# Altium footprint library 主板.PcbLib: 27 footprints (part 1 of 2)
Each footprint in its own frame and in the unit in brackets; x right, y up, seen from the top. Pads: shape width x height; smd on the part's side, far side on the other; paste and mask are expansions set on the pad; w line width, h text height; cw(c..) or ccw(c..) is an arc to the next point about the centre after c.
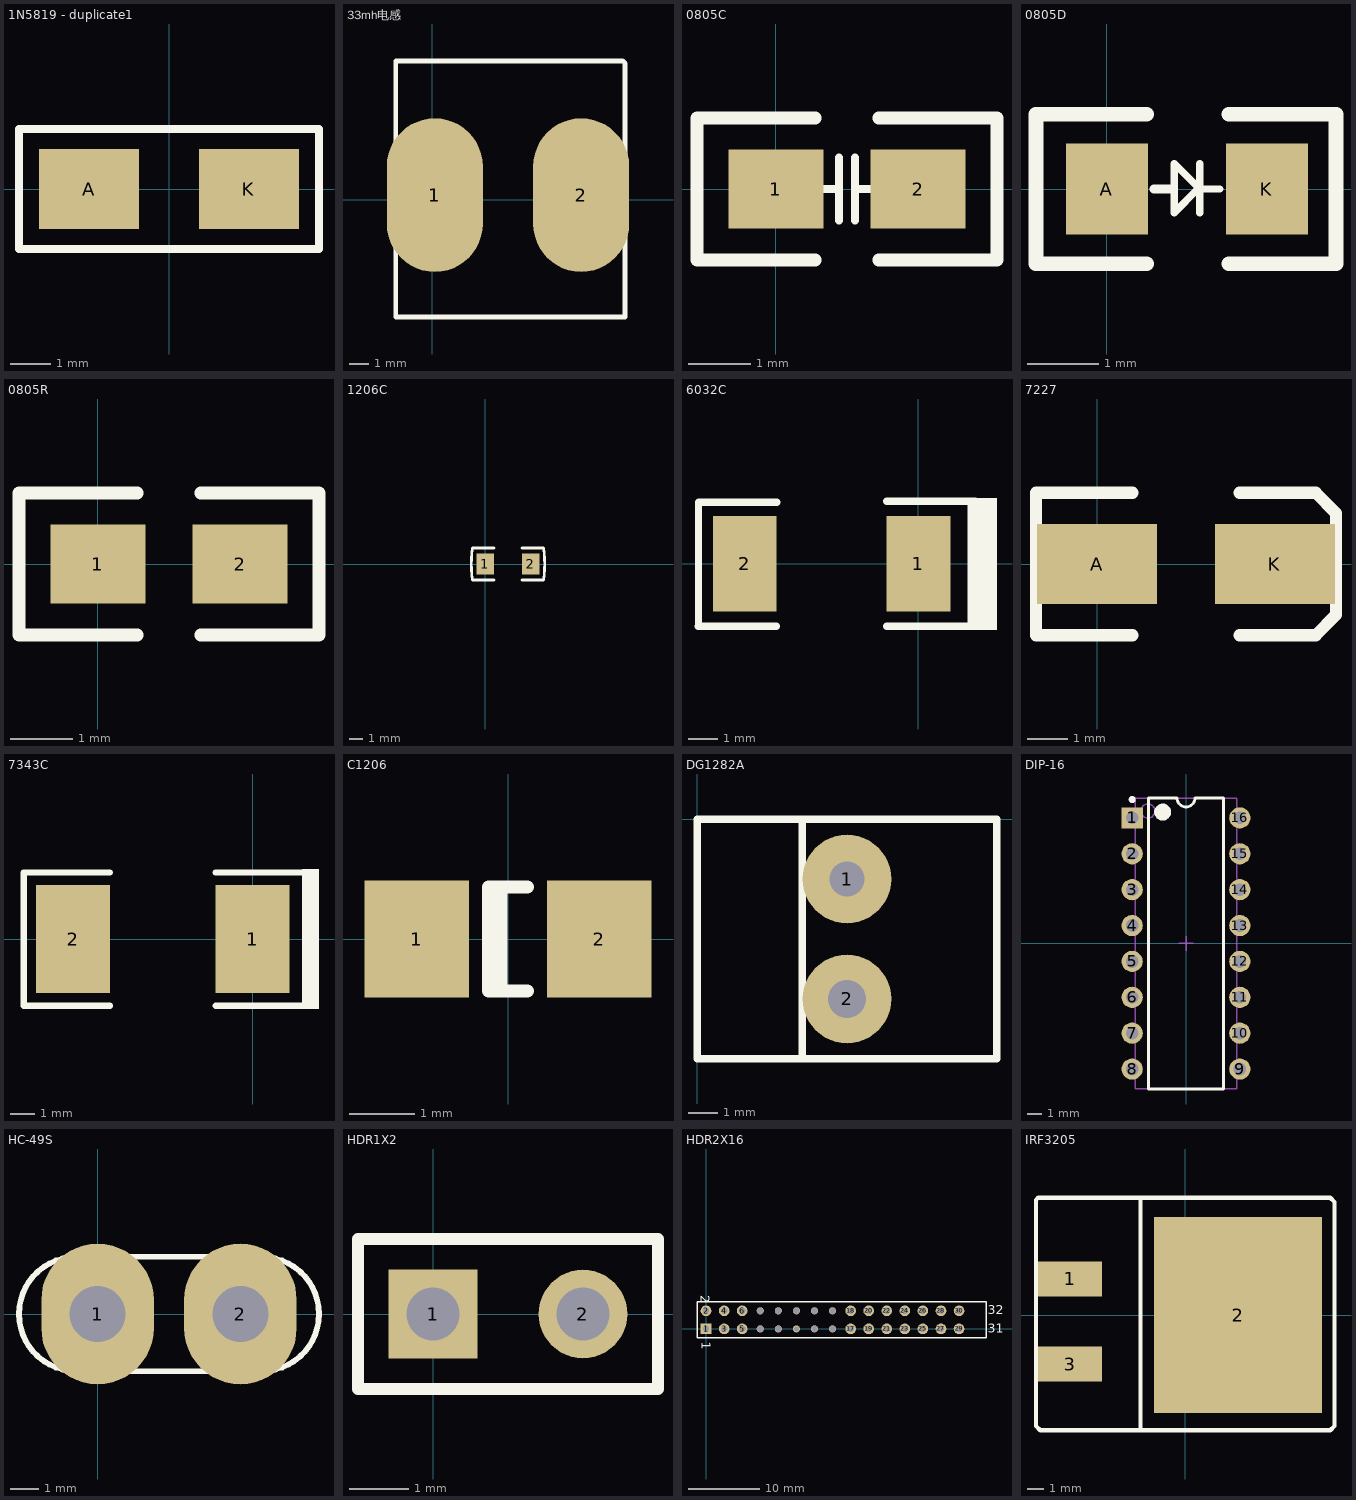
[diagram p0: the footprints below, top view; thin cyan lines are the x and y axes]

## 1N5819 - duplicate1 [mm]
pads (2):
  rect 2.5x2 smd: A(-2,0) K(2,0)
Top Overlay:
  lines w0.2: -3.75,-1.5 3.75,-1.5 3.75,1.5 -3.75,1.5 -3.75,0 -3.75,-1.5

## 33mh电感 [mil]
pads (2):
  oval 196.85x314.96 smd: 1(5,10) 2(305,10)
Top Overlay:
  lines w10: -75,-240 180,-240 395,-240 395,280 390,285 -75,285 -75,275 -75,-240

## 0805C [mil]
pads (2):
  rect 60x50 smd: 1(0,0) 2(90,0)
Top Overlay:
  lines w5: 30,0 40,0 ; 40,-20 40,20 ; 50,-20 50,20 ; 50,0 60,0
  lines w8: 25,-45 -50,-45 -50,45 25,45 ; 65,-45 140,-45 140,45 65,45

## 0805D [mil]
pads (2):
  rect 45x50 smd: A(0,0) K(88,0)
Top Overlay:
  lines w4: 51,-13 51,14 ; 62,0 51,0 ; 51,0 37,14 37,-13 50,0 51,0
  lines w5: 26,0 36,0
  lines w8: 22,-41 -39,-41 -39,41 22,41 ; 67,-41 126,-41 126,41 67,41

## 0805R [mil]
pads (2):
  rect 60x50 smd: 1(0,0) 2(90,0)
Top Overlay:
  lines w8: 25,-45 -50,-45 -50,45 25,45 ; 65,-45 140,-45 140,45 65,45

## 1206C [mil]
pads (2):
  rect 50x60 smd: 1(0,0) 2(130,0)
Top Overlay:
  lines w8: 25,-46 -36,-46 cw(c226.51,0) -36,46 25,46 ; 105,-46 166,-46 ccw(c-96.51,0) 166,46 105,46

## 6032C [mm]
pads (2):
  rect 2.2x3.3 smd: 1(0,0) 2(-6,0)
Top Overlay:
  rectangle: 1.699,-2.29 2.715,2.28
  lines w0.254: -7.605,-2.159 -4.905,-2.159 ; -7.6,-2.133 -7.6,2.133 -4.9,2.133 ; -1.095,-2.159 1.831,-2.159 ; -1.095,2.159 1.958,2.159

## 7227 [mm]
pads (2):
  rect 3x2 smd: A(0,0) K(4.445,0)
Top Overlay:
  lines w0.305: 0.889,-1.778 -1.524,-1.778 -1.524,1.778 0.889,1.778 ; 3.556,-1.778 5.461,-1.778 5.969,-1.27 5.969,1.27 5.461,1.778 3.556,1.778

## 7343C [mm]
pads (2):
  rect 3x4.4 smd: 1(0,0) 2(-7.3,0)
Top Overlay:
  rectangle: 2.008,-2.835 2.7,2.845
  lines w0.254: -5.8,-2.708 -9.308,-2.708 -9.308,2.708 -5.8,2.708 ; -1.5,-2.708 2.008,-2.708 ; -1.5,2.708 2.008,2.708

## C1206 [mm]
pads (2):
  rect 1.6x1.8 smd: 1(-1.4,0) 2(1.4,0)
Top Overlay:
  lines w0.2: -0.11,-0.8 -0.11,0.8 ; 0.3,-0.8 -0.3,-0.8 -0.3,0.8 0.3,0.8

## DG1282A [mm]
pads (2):
  round 3 hole 1.2: 1(5.08,-2.032)
  round 3 hole 1.3: 2(5.08,-6.096)
Top Overlay:
  lines w0.254: 3.556,-8.128 3.556,0 ; 0,-8.128 0,-0.508 0,0 6.096,0 6.604,0 7.112,0 9.144,0 10.16,0 10.16,-8.128 9.144,-8.128 7.112,-8.128 6.604,-8.128 6.096,-8.128 0,-8.128

## DIP-16 [mm] "DIP; 16 Leads; Row Spacing 7.62 mm; Pitch 2.54 m"
height 5.08
pads (16):
  rect 1.5x1.5 hole 0.9: 1(-3.81,8.89)
  round 1.5 hole 0.9: 2(-3.81,6.35) 3(-3.81,3.81) 4(-3.81,1.27) 5(-3.81,-1.27) 6(-3.81,-3.81) 7(-3.81,-6.35) 8(-3.81,-8.89) 9(3.81,-8.89) 10(3.81,-6.35) 11(3.81,-3.81) 12(3.81,-1.27) 13(3.81,1.27) 14(3.81,3.81) 15(3.81,6.35) 16(3.81,8.89)
Top Overlay:
  circle w0.6: c-1.65,9.3 r0.3
  circle w0.25: c-3.81,10.19 r0.125
  lines w0.2: -2.65,-10.3 2.65,-10.3 2.65,10.3 0.635,10.3 cw(c0,10.3) -0.635,10.3 -2.65,10.3 -2.65,-10.3
Mechanical 13:
  circle w0.1: c-2.7,9.375 r0.5
  lines w0.1: -3.6,-10.275 3.6,-10.275 3.6,10.275 -3.6,10.275 -3.6,-10.275
Mechanical 15:
  lines w0.1: -0.5,0 0.5,0 ; 0,-0.5 0,0.5
3D body: height 5.08, standoff 0, extent -3.6,-10.275 3.6,10.275

## HC-49S [mm]
pads (2):
  oval 4x5 hole 2: 1(0,0) 2(5.08,0)
Top Overlay:
  lines w0.203: -0.762,-2.032 cw(c-0.762,0) -0.762,2.032 5.842,2.032 cw(c5.842,0) 5.842,-2.032 -0.762,-2.032

## HDR1X2 [mm] "Connector; Header; 2 Positio"
pads (2):
  rect 1.5x1.5 hole 0.9: 1(0,0)
  round 1.5 hole 0.9: 2(2.54,0)
Top Overlay:
  lines w0.2: -1.27,-1.27 3.81,-1.27 3.81,1.27 -1.27,1.27 -1.27,-1.27

## HDR2X16 [mm] "Connector; Header; 16x2 Positio"
pads (32):
  rect 1.5x1.5 hole 0.9: 1(0,0)
  round 1.5 hole 0.9: 2(0,2.54) 3(2.54,0) 4(2.54,2.54) 5(5.08,0) 6(5.08,2.54) 17(20.32,0) 18(20.32,2.54) 19(22.86,0) 20(22.86,2.54) 21(25.4,0) 22(25.4,2.54) 23(27.94,0) 24(27.94,2.54) 25(30.48,0) 26(30.48,2.54) 27(33.02,0) 28(33.02,2.54) 29(35.56,0) 30(35.56,2.54)
  round 1 hole 0.9: 7(7.62,0) 8(7.62,2.54) 9(10.16,0) 10(10.16,2.54) 12(12.7,2.54) 13(15.24,0) 14(15.24,2.54) 15(17.78,0) 16(17.78,2.54)
  round 1 hole 0.7: 11(12.7,0)
  round 0 all layers, no hole: 31(38.1,0) 32(38.1,2.54)
Top Overlay:
  lines w0.2: -1.27,-1.27 39.37,-1.27 39.37,3.81 -1.27,3.81 -1.27,-1.27
  text "2" at -0.762,4.699 h1.27
  text "1" at -0.635,-1.778 h1.27
  text "31" at 39.624,-0.508 h1.27
  text "32" at 39.624,2.032 h1.27

## IRF3205 [mm] "D2-PAK, 3-Pads, Body 8.8x10.5mm (max), IPC Medium Densit"
pads (3):
  rect 3.81x2.08 smd: 1(-6.858,2.159) 3(-6.858,-2.921)
  rect 10x11.65 smd: 2(3.15,0)
Top Overlay:
  circle w0.25: c-6.95,2.57 r0.125
  lines w0.254: -2.667,-6.731 -2.667,6.985 ; -8.89,-6.604 -8.89,-6.35 -8.89,6.858 -8.763,6.985 8.636,6.985 8.89,6.731 8.89,-6.604 8.636,-6.858 -8.636,-6.858 -8.89,-6.604